# Altium schematic symbol library JS102011SAQN.SchLib: 1 symbol
Pins are listed as number, name and electrical type; pins without a type are passive.

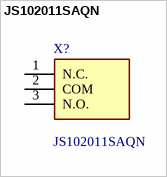
[diagram p0: symbol JS102011SAQN]

## JS102011SAQN
designator X?
Slide Switch SPDT Surface Mount, Right Angle 300mA (DC) 6V Gull Wing -40C ~ 85C; Manufacturer_Name: LITTELFUSE; Geometry.Height: 3.5mm; Farnell Part Number: *; Farnell Price/Stock: *; Manufacturer_Part_Number: JS102011SAQN; Datasheet Link: https://www.littelfuse.com/assetdocs/littelfuse-ck-slide-js-series-datasheet?assetguid=aba42b08-0d2c-423b-813d-a2faa5a3bb14
footprint JS102011SAQN
pins: 1 N.C., 2 COM, 3 N.O.